# Altium footprint library SparkFun-Jumpers.PCBLIB: 18 footprints (part 1 of 2)
Each footprint in its own frame and in the unit in brackets; x right, y up, seen from the top. Pads: shape width x height; smd on the part's side, far side on the other; paste and mask are expansions set on the pad; w line width, h text height; cw(c..) or ccw(c..) is an arc to the next point about the centre after c.
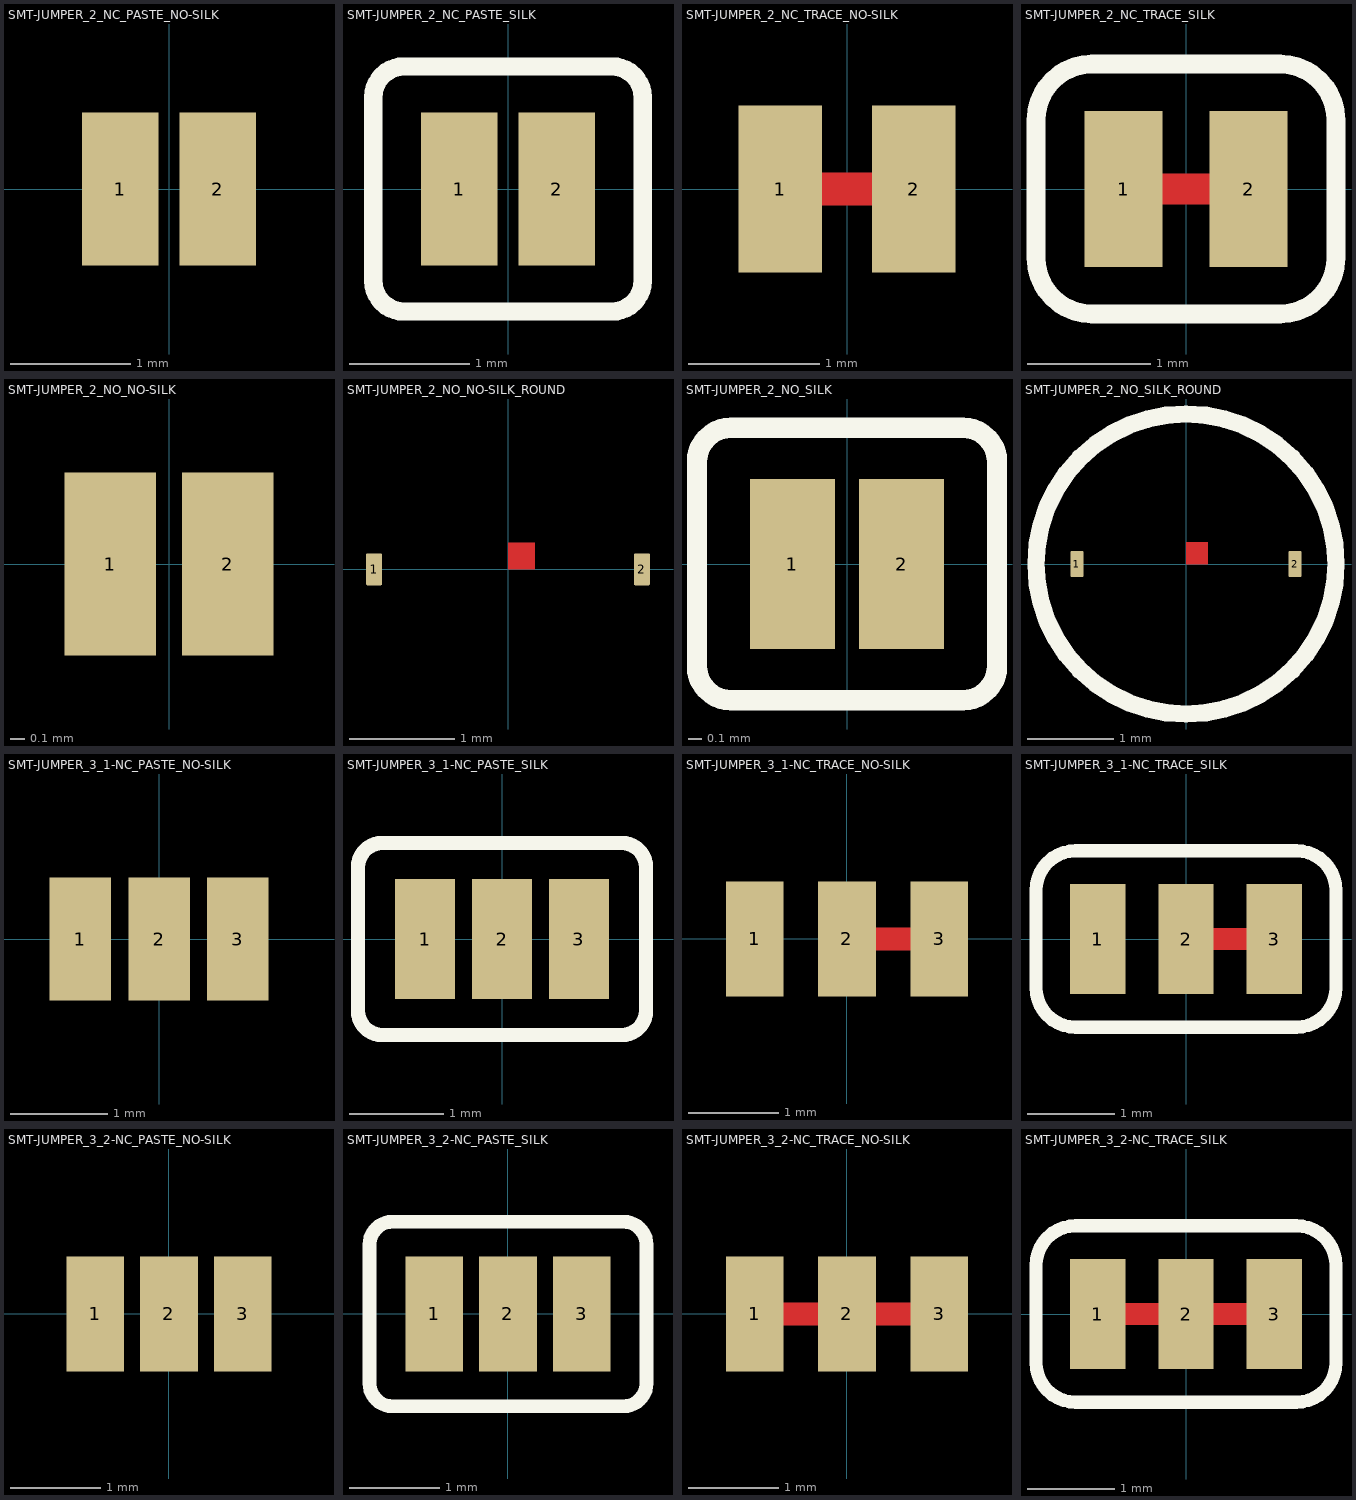
[diagram p0: the footprints below, top view; thin cyan lines are the x and y axes]

## SMT-JUMPER_2_NC_PASTE_NO-SILK [mil]
pads (2):
  rect 25x50 smd: 1(-16,0) 2(16,0)
Top Paste:
  rectangle: -49,-44 49,44

## SMT-JUMPER_2_NC_PASTE_SILK [mil]
pads (2):
  rect 25x50 smd: 1(-16,0) 2(16,0)
Top Overlay:
  lines w6: -44,-30 ccw(c-34,-30) -34,-40 34,-40 ccw(c34,-30) 44,-30 44,30 ccw(c34,30) 34,40 -34,40 ccw(c-34,30) -44,30 -44,-30
Top Paste:
  rectangle: -49,-44 49,44

## SMT-JUMPER_2_NC_TRACE_NO-SILK [mil]
pads (2):
  rect 25x50 smd: 1(-20,0) 2(20,0)
Top Layer:
  lines w10: -20,0 20,0
Top Solder:
  region: 0,0 10,0 10,10 0,10

## SMT-JUMPER_2_NC_TRACE_SILK [mil]
pads (2):
  rect 25x50 smd: 1(-20,0) 2(20,0)
Top Layer:
  lines w10: -20,0 20,0
Top Overlay:
  lines w6: -48,-22 ccw(c-30,-22) -30,-40 30,-40 ccw(c30,-22) 48,-22 48,22 ccw(c30,22) 30,40 -30,40 ccw(c-30,22) -48,22 -48,-22
Top Solder:
  region: 0,0 10,0 10,10 0,10

## SMT-JUMPER_2_NO_NO-SILK [mil]
pads (2):
  rect 25x50 smd: 1(-16,0) 2(16,0)

## SMT-JUMPER_2_NO_NO-SILK_ROUND [mil]
pads (2):
  rrect20% 6x12 smd: 1(-50,0) 2(50,0)
Top Layer:
  region: 0,0 10,0 10,10 0,10
  region: 0,0 10,0 10,10 0,10
Top Solder:
  region: 0,0 10,0 10,10 0,10

## SMT-JUMPER_2_NO_SILK [mil]
pads (2):
  rect 25x50 smd: 1(-16,0) 2(16,0)
Top Overlay:
  lines w6: -44,-30 ccw(c-34,-30) -34,-40 34,-40 ccw(c34,-30) 44,-30 44,30 ccw(c34,30) 34,40 -34,40 ccw(c-34,30) -44,30 -44,-30

## SMT-JUMPER_2_NO_SILK_ROUND [mil]
pads (2):
  rrect20% 6x12 smd: 1(-50,0) 2(50,0)
Top Layer:
  region: 0,0 10,0 10,10 0,10
  region: 0,0 10,0 10,10 0,10
Top Overlay:
  circle w8: c0,0 r68.75
Top Solder:
  region: 0,0 10,0 10,10 0,10

## SMT-JUMPER_3_1-NC_PASTE_NO-SILK [mil]
pads (3):
  rect 25x50 smd: 1(-32,0) 2(0,0) 3(32,0)
Top Paste:
  rectangle: -16,-44 65,44

## SMT-JUMPER_3_1-NC_PASTE_SILK [mil]
pads (3):
  rect 25x50 smd: 1(-32,0) 2(0,0) 3(32,0)
Top Overlay:
  lines w6: -60,-30 ccw(c-50,-30) -50,-40 50,-40 ccw(c50,-30) 60,-30 60,30 ccw(c50,30) 50,40 -50,40 ccw(c-50,30) -60,30 -60,-30
Top Paste:
  rectangle: -16,-44 65,44

## SMT-JUMPER_3_1-NC_TRACE_NO-SILK [mil]
pads (3):
  rect 25x50 smd: 1(-40,0) 2(0,0) 3(40,0)
Top Layer:
  lines w10: 0,0 40,0
Top Solder:
  region: 0,0 10,0 10,10 0,10

## SMT-JUMPER_3_1-NC_TRACE_SILK [mil]
pads (3):
  rect 25x50 smd: 1(-40,0) 2(0,0) 3(40,0)
Top Layer:
  lines w10: 0,0 40,0
Top Overlay:
  lines w6: -68,-22 ccw(c-50,-22) -50,-40 50,-40 ccw(c50,-22) 68,-22 68,22 ccw(c50,22) 50,40 -50,40 ccw(c-50,22) -68,22 -68,-22
Top Solder:
  region: 0,0 10,0 10,10 0,10

## SMT-JUMPER_3_2-NC_PASTE_NO-SILK [mil]
pads (3):
  rect 25x50 smd: 1(-32,0) 2(0,0) 3(32,0)
Top Paste:
  rectangle: -65,-44 65,44

## SMT-JUMPER_3_2-NC_PASTE_SILK [mil]
pads (3):
  rect 25x50 smd: 1(-32,0) 2(0,0) 3(32,0)
Top Overlay:
  lines w6: -60,-30 ccw(c-50,-30) -50,-40 50,-40 ccw(c50,-30) 60,-30 60,30 ccw(c50,30) 50,40 -50,40 ccw(c-50,30) -60,30 -60,-30
Top Paste:
  rectangle: -65,-44 65,44

## SMT-JUMPER_3_2-NC_TRACE_NO-SILK [mil]
pads (3):
  rect 25x50 smd: 1(-40,0) 2(0,0) 3(40,0)
Top Layer:
  lines w10: -40,0 0,0 40,0
Top Solder:
  region: 0,0 10,0 10,10 0,10
  region: 0,0 10,0 10,10 0,10

## SMT-JUMPER_3_2-NC_TRACE_SILK [mil]
pads (3):
  rect 25x50 smd: 1(-40,0) 2(0,0) 3(40,0)
Top Layer:
  lines w10: -40,0 0,0 40,0
Top Overlay:
  lines w6: -68,-22 ccw(c-50,-22) -50,-40 50,-40 ccw(c50,-22) 68,-22 68,22 ccw(c50,22) 50,40 -50,40 ccw(c-50,22) -68,22 -68,-22
Top Solder:
  region: 0,0 10,0 10,10 0,10
  region: 0,0 10,0 10,10 0,10